# EAGLE library part CLY6D-FKC-CK1N1D1BB7D3D3 (library MouserUseful)
LED Blue/Green/Red 6-Pin PLCC T/R Cree CLY6D-FKC-CK1N1D1BB7D3D3, CLY6D-FKC Series RGB LED, 480 (Blue) nm, 540 (Green) nm, 624 (Red) nm PLCC 6 Source: Datasheet <http://www.cree.com/led-components/media/documents/ds-1321-CLY6D-FKC.pdf>
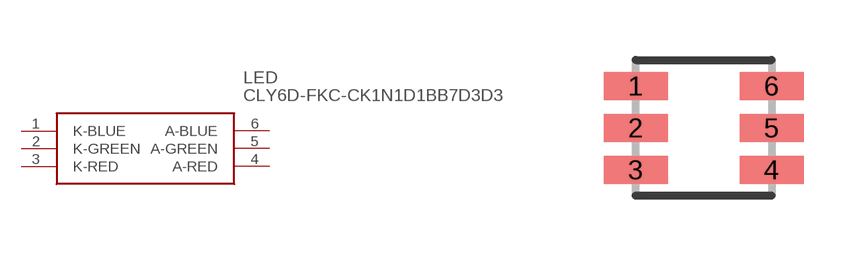
[diagram p12: symbol with the pads of PLCC6; footprint PLCC6]

Designator prefix LED

## CLY6D-FKC-CK1N1D1BB7D3D3 (DESCRIPTION: LED Blue/Green/Red 6-Pin PLCC T/R Cree CLY6D-FKC-CK1N1D1BB7D3D3, CLY6D-FKC Series RGB LED, 480 (Blue) nm, 540 (Green) nm, 624 (Red) nm PLCC 6; HEIGHT: mm; MANUFACTURER_NAME: Cree, Inc.; MANUFACTURER_PART_NUMBER: CLY6D-FKC-CK1N1D1BB7D3D3; MOUSER_PART_NUMBER: 941-CLY6DFKCCK1N1D1B; MOUSER_PRICE-STOCK: https://www.mouser.co.uk/ProductDetail/Cree-Inc/CLY6D-FKC-CK1N1D1BB7D3D3?qs=3ZbGupGMFUcwV8ee%2FC0TnQ%3D%3D)  [PLCC6]
1  K-BLUE
2  K-GREEN
3  K-RED
4  A-RED
5  A-GREEN
6  A-BLUE

## Footprint PLCC6 (pad centres in mm)
PLCC6
smd 1.6 x 0.7: 1 -1.7,1.05; 2 -1.7,0; 3 -1.7,-1.05; 4 1.7,-1.05; 5 1.7,0; 6 1.7,1.05